# Altium integrated library MAX1726EUK18_T.IntLib: 1 symbol
Pins are listed as number, name and electrical type; pins without a type are passive.

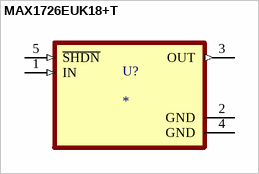
[diagram p0: symbol MAX1726EUK18+T]

## MAX1726EUK18+T
designator U?
Linear Voltage Regulator IC Positive Fixed 1 Output 20mA SOT-23-5; MF: Maxim Integrated Products; MP: MAX1726EUK18+T; SnapEDA_Link: https://www.snapeda.com/parts/MAX1726EUK18+T/Maxim+Integrated/view-part/?ref=snap; Package: SOT-23-5 Maxim Integrated; Value: *; Check_prices: https://www.snapeda.com/parts/MAX1726EUK18+T/Maxim+Integrated/view-part/?ref=eda
footprint SOT95P280X145-5N
pins: 1 IN (in), 2 GND (power), 3 OUT (out), 4 GND (power), 5 ~{SHDN} (in)